# Altium integrated library SMD HC-49USM.IntLib: 1 symbol
Pins are listed as number, name and electrical type; pins without a type are passive.

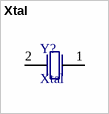
[diagram p0: symbol Xtal]

## Xtal
designator Y?
footprint SMD HC-49USM
pins: 1, 2